# EAGLE library part XCF04SVOG20C (library SamacSys_Parts)
Platform Flash 4Mb TSSOP XCF04SVOG20C, Configuration Memory 3 ??? 3.6 V 20-Pin TSSOP Source: Datasheet <https://componentsearchengine.com/Datasheets/1/XCF04SVOG20C.pdf>
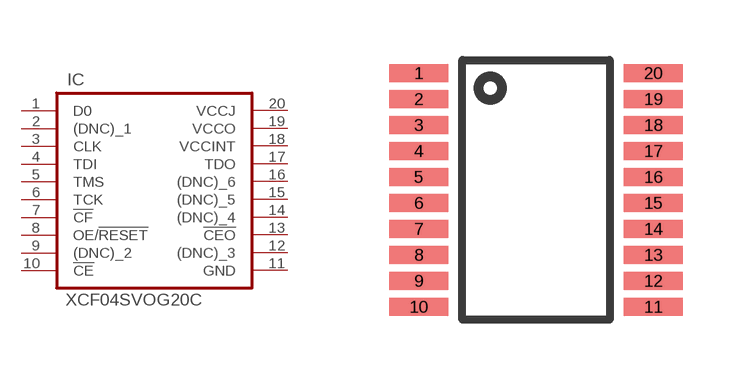
[diagram p1: symbol with the pads of SOP65P640X119-20N; footprint SOP65P640X119-20N]

Designator prefix IC

## XCF04SVOG20C (DESCRIPTION: Platform Flash 4Mb TSSOP XCF04SVOG20C, Configuration Memory 3 ??? 3.6 V 20-Pin TSSOP; HEIGHT: 1.19mm; MANUFACTURER_NAME: XILINX; MANUFACTURER_PART_NUMBER: XCF04SVOG20C; MOUSER_PART_NUMBER: 217-XCF04SVOG20C; MOUSER_PRICE-STOCK: https://www.mouser.com/Search/Refine.aspx?Keyword=217-XCF04SVOG20C)  [SOP65P640X119-20N]
1  D0
2  (DNC)_1
3  CLK  in
4  TDI
5  TMS
6  TCK
7  !CF
8  OE/!RESET
9  (DNC)_2
10  !CE
11  GND  pwr
12  (DNC)_3
13  !CEO
14  (DNC)_4
15  (DNC)_5
16  (DNC)_6
17  TDO
18  VCCINT  pwr
19  VCCO  pwr
20  VCCJ  pwr

## Footprint SOP65P640X119-20N (pad centres in mm)
TSSOP (VO20/VOG20)
smd 1.485 x 0.45: 1 -2.932,2.925; 2 -2.932,2.275; 3 -2.932,1.625; 4 -2.932,0.975; 5 -2.932,0.325; 6 -2.932,-0.325; 7 -2.932,-0.975; 8 -2.932,-1.625; 9 -2.932,-2.275; 10 -2.932,-2.925; 11 2.932,-2.925; 12 2.932,-2.275; 13 2.932,-1.625; 14 2.932,-0.975; 15 2.932,-0.325; 16 2.932,0.325; 17 2.932,0.975; 18 2.932,1.625; 19 2.932,2.275; 20 2.932,2.925